# Altium footprint library TL2230OAF140.PcbLib: 1 footprints
Each footprint in its own frame and in the unit in brackets; x right, y up, seen from the top. Pads: shape width x height; smd on the part's side, far side on the other; paste and mask are expansions set on the pad; w line width, h text height; cw(c..) or ccw(c..) is an arc to the next point about the centre after c.
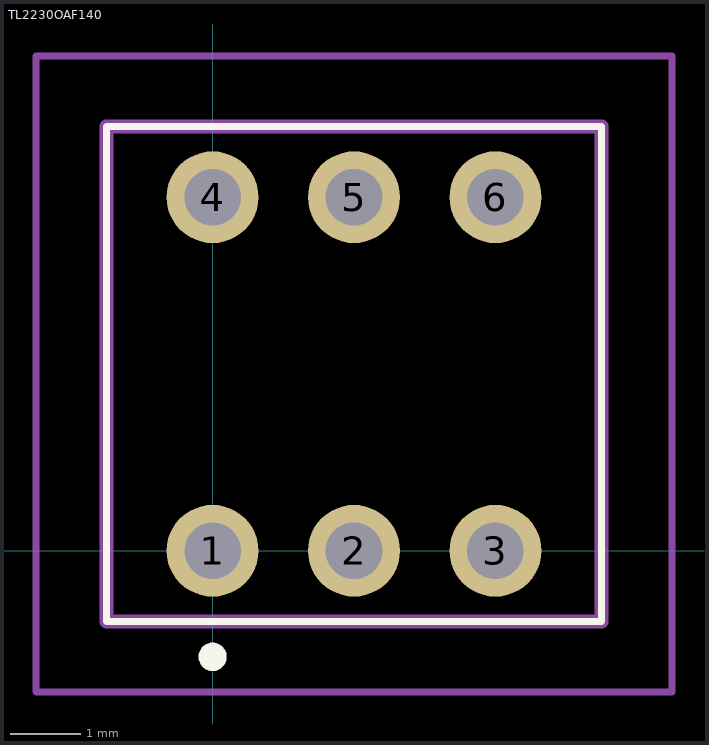
[diagram p0: the footprint, top view; thin cyan lines are the x and y axes]

## TL2230OAF140 [mm]
pads (6):
  round 1.3 hole 0.8: 1(0,0) 2(2,0) 3(4,0) 4(0,5) 5(2,5) 6(4,5)
Top Overlay:
  lines w0.1: -1.5,-1 5.5,-1 5.5,6 -1.5,6 -1.5,-1
  lines w0.2: -0.1,-1.5 -0.1,-1.5 ; -0.1,-1.5 cw(c0,-1.5) 0.1,-1.5 ; -0.1,-1.5 ccw(c0,-1.5) 0.1,-1.5 ; 0.1,-1.5 0.1,-1.5
Mechanical 15:
  lines w0.2: -1.5,-1 5.5,-1 5.5,6 -1.5,6 -1.5,-1
Mechanical 20:
  lines w0.1: -2.5,-2 6.5,-2 6.5,7 -2.5,7 -2.5,-2
3D body "TL2230EEF100.stp": height 5.8, standoff -4.65, extent -10,-3.376 10,3.376